# Altium schematic symbol library Part A.SchLib: 1 symbol
Pins are listed as number, name and electrical type; pins without a type are passive.

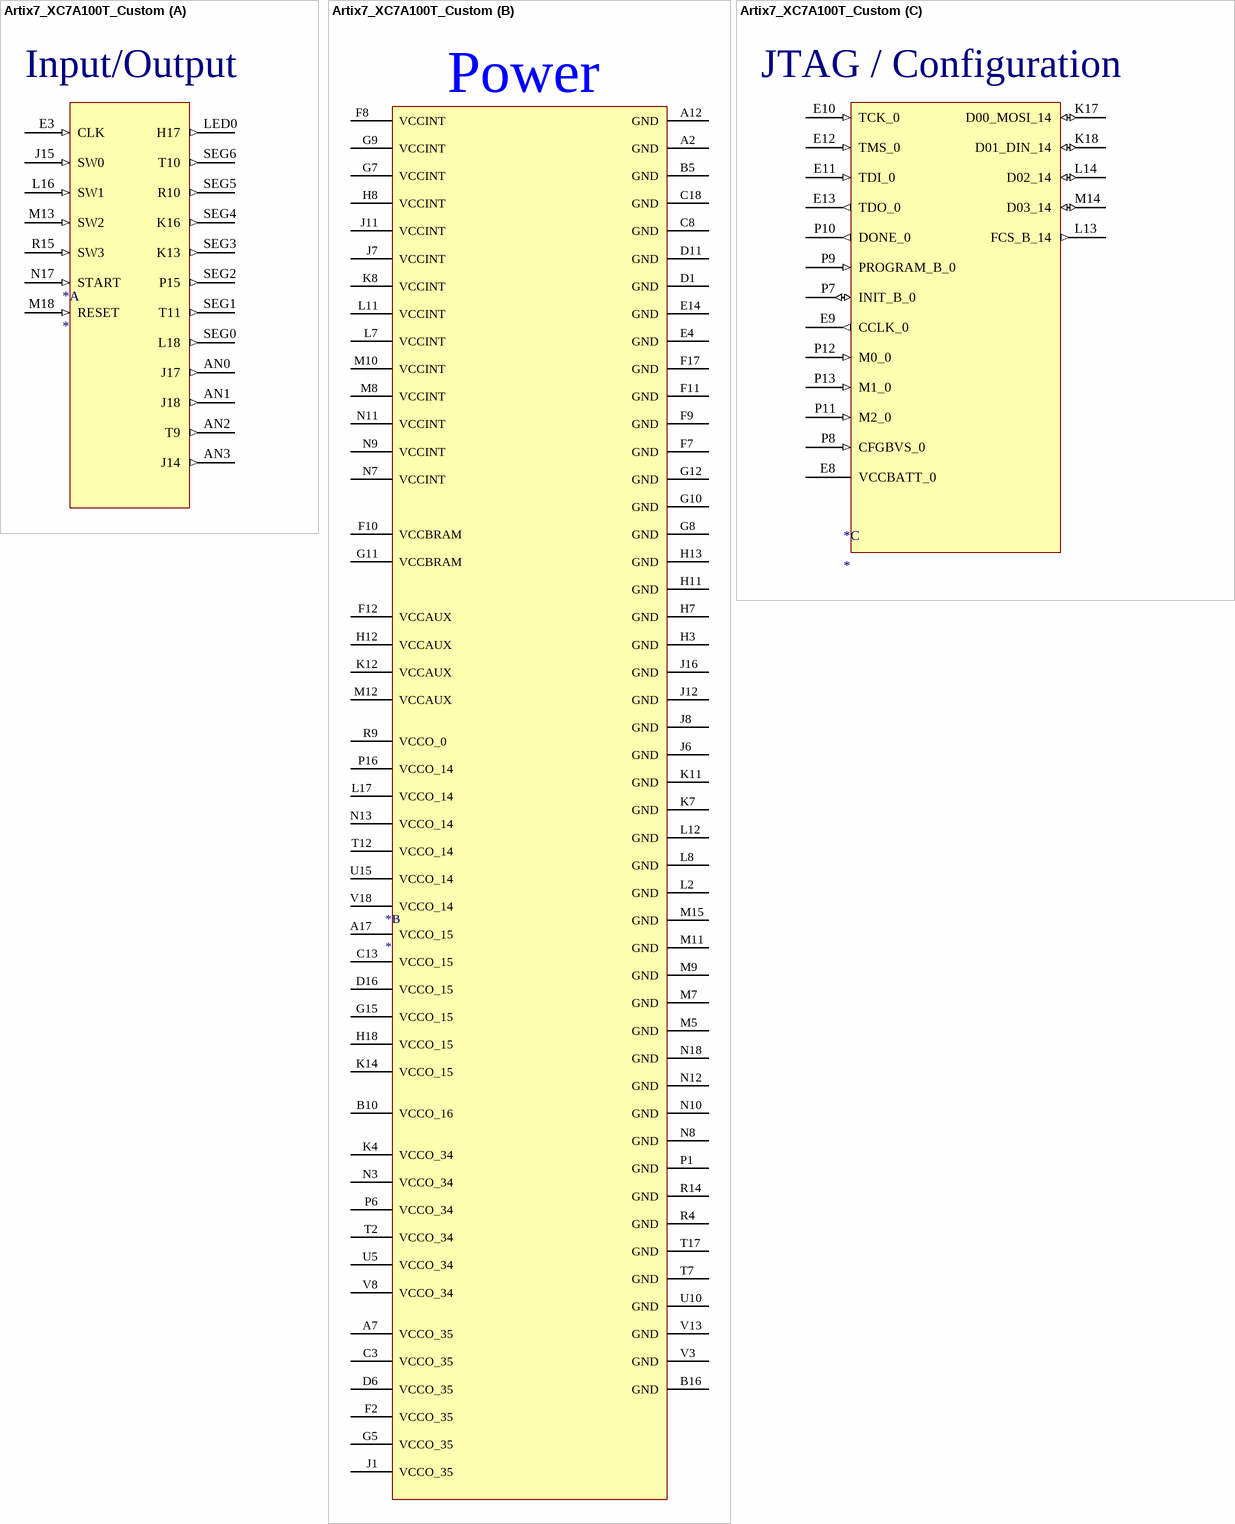
[diagram p0: symbol Artix7_XC7A100T_Custom]

## Artix7_XC7A100T_Custom
designator *
footprint CSG324_XIL; pin to pad AN0>J17 AN1>J18 AN2>T9 AN3>J14 LED0>H17 SEG0>L18 SEG1>T11 SEG2>P15 SEG3>K13 SEG4>K16 SEG5>R10 SEG6>T10
part A pins: AN0 J17 (out), AN1 J18 (out), AN2 T9 (out), AN3 J14 (out), E3 CLK (in), J15 SW0 (in), L16 SW1 (in), LED0 H17 (out), M13 SW2 (in), M18 RESET (in), N17 START (in), R15 SW3 (in), SEG0 L18 (out), SEG1 T11 (out), SEG2 P15 (out), SEG3 K13 (out), SEG4 K16 (out), SEG5 R10 (out), SEG6 T10 (out)
part B pins: A2 GND (power), A7 VCCO_35 (power), A12 GND (power), A17   VCCO_15 (power), B5 GND (power), B10 VCCO_16 (power), B16 GND (power), C3 VCCO_35 (power), C8 GND (power), C13 VCCO_15 (power), C18 GND (power), D1 GND (power), D6 VCCO_35 (power), D11 GND (power), D16 VCCO_15 (power), E4 GND (power), E14 GND (power), F2 VCCO_35 (power), F7 GND (power), F8    VCCINT (power), F9 GND (power), F10 VCCBRAM (power), F11 GND (power), F12 VCCAUX (power), F17 GND (power), G5 VCCO_35 (power), G7 VCCINT (power), G8 GND (power), G9 VCCINT (power), G10 GND (power), G11 VCCBRAM (power), G12 GND (power), G15 VCCO_15 (power), H3 GND (power), H7 GND (power), H8 VCCINT (power), H11 GND (power), H12 VCCAUX (power), H13 GND (power), H18 VCCO_15 (power), J1 VCCO_35 (power), J6 GND (power), J7 VCCINT (power), J8 GND (power), J11 VCCINT (power), J12 GND (power), J16 GND (power), K4 VCCO_34 (power), K7 GND (power), K8 VCCINT (power), K11 GND (power), K12 VCCAUX (power), K14 VCCO_15 (power), L2 GND (power), L7 VCCINT (power), L8 GND (power), L11 VCCINT (power), L12 GND (power), L17   VCCO_14 (power), M5 GND (power), M7 GND (power), M8 VCCINT (power), M9 GND (power), M10 VCCINT (power), M11 GND (power), M12 VCCAUX (power), M15 GND (power), N3 VCCO_34 (power), N7 VCCINT (power), N8 GND (power), N9 VCCINT (power), N10 GND (power), N11 VCCINT (power), N12 GND (power), N13   VCCO_14 (power), N18 GND (power), P1 GND (power), P6 VCCO_34 (power), P16 VCCO_14 (power), R4 GND (power), R9 VCCO_0 (power), R14 GND (power), T2 VCCO_34 (power), T7 GND (power), T12   VCCO_14 (power), T17 GND (power), U5 VCCO_34 (power), U10 GND (power), U15   VCCO_14 (power), V3 GND (power), V8 VCCO_34 (power), V13 GND (power), V18   VCCO_14 (power)
part C pins: E8 VCCBATT_0 (power), E9 CCLK_0 (out), E10 TCK_0 (in), E11 TDI_0 (in), E12 TMS_0 (in), E13 TDO_0 (out), K17 D00_MOSI_14 (io), K18 D01_DIN_14 (io), L13 FCS_B_14 (out), L14 D02_14 (io), M14 D03_14 (io), P7 INIT_B_0 (io), P8 CFGBVS_0 (in), P9 PROGRAM_B_0 (in), P10 DONE_0 (out), P11 M2_0 (in), P12 M0_0 (in), P13 M1_0 (in)
part A text: Input/Output
part B text: Power
part C text: JTAG / Configuration